# Altium integrated library TI_Logic_Specialty_Logic.IntLib: 2504 symbols (part 38 of 81)
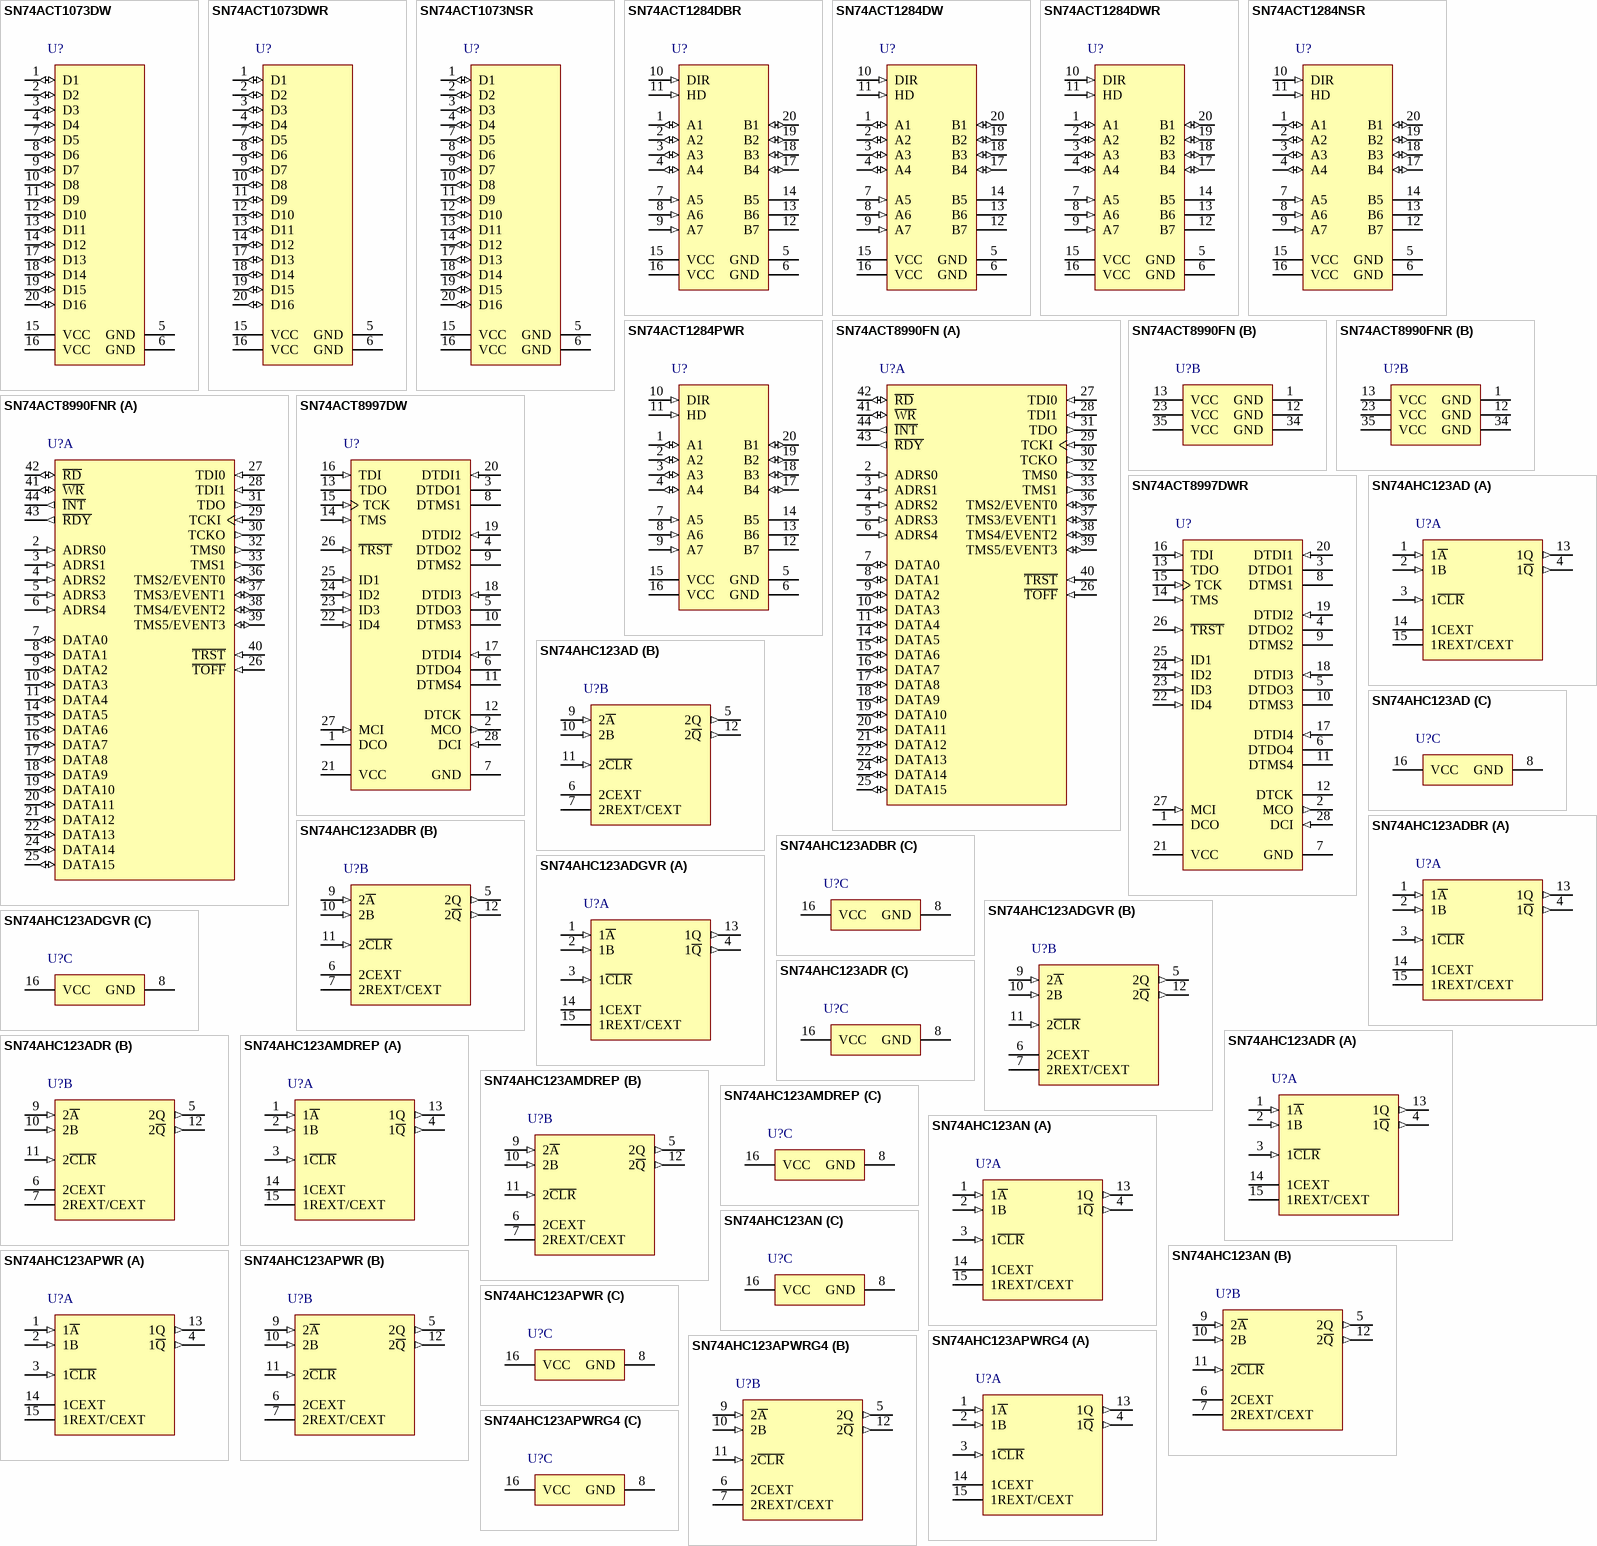
[diagram p141: symbols SN74ACT1073DW to SN74AHC123APWRG4]

## SN74ACT8997DW
designator U?
Scan Path Linkers With 4-Bit Identification Buses Scan-Controlled TAP Concatenators, DW0028A, TUBE; Generic Part Number: SN74ACT8997; Manufacturer: Texas Instruments; PartNumber: SN74ACT8997DW; VCC(Min)(V): 4.5; VCC(Max)(V): 5.5; Output Type: CMOS; Input Type: TTL; Rating: Catalog; Technology Family: ACT; DatasheetVersion: SCAS157D; PackageReference: DW0028A; Supplier 1: Mouser; Supplier Part Number 1: 595-SN74ACT8997DW; Supplier 2: Digi-Key; Supplier Part Number 2: 296-4506-5-ND; Operating Temperature Range(C): 0 to 70; ComponentLink1Description: Manufacturer URL; ComponentLink1URL: http://www.ti.com/; ComponentLink2Description: Datasheet; ComponentLink2URL: http://www.ti.com/lit/ds/symlink/sn74act8997.pdf
footprint DW0028A_N (SOIC, 28-Leads, Body 18.1x7.6mm, Pitch 1.27mm, IPC Medium Density)
footprint DW0028A_M (SOIC, 28-Leads, Body 18.1x7.6mm, Pitch 1.27mm, IPC Low Density)
footprint DW0028A_L (SOIC, 28-Leads, Body 18.1x7.6mm, Pitch 1.27mm, IPC High Density)
pins: 1 DCO (hiz) "Device condition output. DCO is configured by the control register to output protocol and interrupt signals and can be configured by the control register to output an error signal if the instruction register is loaded with (See Datasheet)", 2 MCO (out) "Master condition output. MCO transmits interrupt and protocol signals to the secondary scan path(s).", 3 DTDO1 (hiz) "Device test data output 1-4. These outputs send serial test data to the TDI input(s) of the secondary scan path(s).", 4 DTDO2 (hiz) "Device test data output 1-4. These outputs send serial test data to the TDI input(s) of the secondary scan path(s).", 5 DTDO3 (hiz) "Device test data output 1-4. These outputs send serial test data to the TDI input(s) of the secondary scan path(s).", 6 DTDO4 (hiz) "Device test data output 1-4. These outputs send serial test data to the TDI input(s) of the secondary scan path(s).", 7 GND (power) "Ground", 8 DTMS1 (hiz) "Device test mode select 1-4. Any combination of these four outputs can be selected to follow TMS to direct the secondary scan path(s) through the TAP controller states in Figure 1. The unselected DTMS outputs can be set (See Datasheet)", 9 DTMS2 (hiz) "Device test mode select 1-4. Any combination of these four outputs can be selected to follow TMS to direct the secondary scan path(s) through the TAP controller states in Figure 1. The unselected DTMS outputs can be set (See Datasheet)", 10 DTMS3 (hiz) "Device test mode select 1-4. Any combination of these four outputs can be selected to follow TMS to direct the secondary scan path(s) through the TAP controller states in Figure 1. The unselected DTMS outputs can be set (See Datasheet)", 11 DTMS4 (hiz) "Device test mode select 1-4. Any combination of these four outputs can be selected to follow TMS to direct the secondary scan path(s) through the TAP controller states in Figure 1. The unselected DTMS outputs can be set (See Datasheet)", 12 DTCK (hiz) "Device test clock. DTCK outputs the buffered test clock TCK to the secondary scan path(s).", 13 TDO (hiz) "Test data output. One of four terminals required by IEEE Standard 1149.1. TDO is the serial output for shifting information out of the instruction register or selected data register. TDO is typically connected to the TDI of (See Datasheet)", 14 TMS (in) "Test mode select. One of four terminals required by IEEE Standard 1149.1. The level of TMS at the rising edge of TCK directs the ’ACT8997 through its TAP controller states. An internal pullup forces TMS to a high level i(See Datasheet)", 15 TCK (in) "Test clock. One of four terminals required by IEEE Standard 1149.1. All operations of the ’ACT8997 except for the count function are synchronous to TCK. Data on the device inputs is captured on the rising edge of TCK, an(See Datasheet)", 16 TDI (in) "Test data input. One of four terminals required by IEEE Standard 1149.1. TDI is the serial input for shifting information into the instruction register or selected data register. TDI is typically driven by the TDO of the PBC.(See Datasheet)", 17 DTDI4 (in) "Device test data input 1-4. DTDI1-DTDI4 receive the serial test data output(s) of the selected secondary scan path(s). An internal pullup forces DTDI1-DTDI4 to a high logic level if it is left unconnected.", 18 DTDI3 (in) "Device test data input 1-4. DTDI1-DTDI4 receive the serial test data output(s) of the selected secondary scan path(s). An internal pullup forces DTDI1-DTDI4 to a high logic level if it is left unconnected.", 19 DTDI2 (in) "Device test data input 1-4. DTDI1-DTDI4 receive the serial test data output(s) of the selected secondary scan path(s). An internal pullup forces DTDI1-DTDI4 to a high logic level if it is left unconnected.", 20 DTDI1 (in) "Device test data input 1-4. DTDI1-DTDI4 receive the serial test data output(s) of the selected secondary scan path(s). An internal pullup forces DTDI1-DTDI4 to a high logic level if it is left unconnected.", 21 VCC (power) "Supply voltage", 22 ID4 (in) "Identification 1-4. This 4-bit data bus can be hardwired to provide identification of the subsystem under test. The value present on the bus can be scanned out through the boundary scan or ID bus registers.", 23 ID3 (in) "Identification 1-4. This 4-bit data bus can be hardwired to provide identification of the subsystem under test. The value present on the bus can be scanned out through the boundary scan or ID bus registers.", 24 ID2 (in) "Identification 1-4. This 4-bit data bus can be hardwired to provide identification of the subsystem under test. The value present on the bus can be scanned out through the boundary scan or ID bus registers.", 25 ID1 (in) "Identification 1-4. This 4-bit data bus can be hardwired to provide identification of the subsystem under test. The value present on the bus can be scanned out through the boundary scan or ID bus registers.", 26 ~{TRST} (in) "Test reset. This active-low input implements the optional reset terminal of IEEE Standard 1149.1. When asserted,T\R\S\T\ causes the ’ACT8997 to go to the Test-Logic-Reset state and configure the instruction register an(See Datasheet)", 27 MCI (in) "Master condition input. MCI receives interrupt and protocol signals from a primary bus controller (PBC). The level on MCI is buffered and output on MCO.", 28 DCI (in) "Device condition input. DCI receives interrupt and protocol signals from the secondary scan path(s). When the counter register is instructed to count up or down, DCI is configured as the counter clock."

## SN74ACT8997DWR
designator U?
Scan Path Linkers With 4-Bit Identification Buses Scan-Controlled TAP Concatenators, DW0028A, LARGE T&R; Generic Part Number: SN74ACT8997; Manufacturer: Texas Instruments; PartNumber: SN74ACT8997DWR; VCC(Min)(V): 4.5; VCC(Max)(V): 5.5; Output Type: CMOS; Input Type: TTL; Rating: Catalog; Technology Family: ACT; DatasheetVersion: SCAS157D; PackageReference: DW0028A; Supplier 1: Mouser; Supplier Part Number 1: 595-SN74ACT8997DWR; Supplier 2: Digi-Key; Supplier Part Number 2: 296-15977-2-ND; Supplier 3: Digi-Key; Supplier Part Number 3: 296-15977-1-ND; Supplier 4: Digi-Key; Supplier Part Number 4: 296-15977-6-ND; Operating Temperature Range(C): 0 to 70; ComponentLink1Description: Manufacturer URL; ComponentLink1URL: http://www.ti.com/; ComponentLink2Description: Datasheet; ComponentLink2URL: http://www.ti.com/lit/ds/symlink/sn74act8997.pdf
footprint DW0028A_N (SOIC, 28-Leads, Body 18.1x7.6mm, Pitch 1.27mm, IPC Medium Density)
footprint DW0028A_M (SOIC, 28-Leads, Body 18.1x7.6mm, Pitch 1.27mm, IPC Low Density)
footprint DW0028A_L (SOIC, 28-Leads, Body 18.1x7.6mm, Pitch 1.27mm, IPC High Density)
pins: 1 DCO (hiz) "Device condition output. DCO is configured by the control register to output protocol and interrupt signals and can be configured by the control register to output an error signal if the instruction register is loaded with (See Datasheet)", 2 MCO (out) "Master condition output. MCO transmits interrupt and protocol signals to the secondary scan path(s).", 3 DTDO1 (hiz) "Device test data output 1-4. These outputs send serial test data to the TDI input(s) of the secondary scan path(s).", 4 DTDO2 (hiz) "Device test data output 1-4. These outputs send serial test data to the TDI input(s) of the secondary scan path(s).", 5 DTDO3 (hiz) "Device test data output 1-4. These outputs send serial test data to the TDI input(s) of the secondary scan path(s).", 6 DTDO4 (hiz) "Device test data output 1-4. These outputs send serial test data to the TDI input(s) of the secondary scan path(s).", 7 GND (power) "Ground", 8 DTMS1 (hiz) "Device test mode select 1-4. Any combination of these four outputs can be selected to follow TMS to direct the secondary scan path(s) through the TAP controller states in Figure 1. The unselected DTMS outputs can be set (See Datasheet)", 9 DTMS2 (hiz) "Device test mode select 1-4. Any combination of these four outputs can be selected to follow TMS to direct the secondary scan path(s) through the TAP controller states in Figure 1. The unselected DTMS outputs can be set (See Datasheet)", 10 DTMS3 (hiz) "Device test mode select 1-4. Any combination of these four outputs can be selected to follow TMS to direct the secondary scan path(s) through the TAP controller states in Figure 1. The unselected DTMS outputs can be set (See Datasheet)", 11 DTMS4 (hiz) "Device test mode select 1-4. Any combination of these four outputs can be selected to follow TMS to direct the secondary scan path(s) through the TAP controller states in Figure 1. The unselected DTMS outputs can be set (See Datasheet)", 12 DTCK (hiz) "Device test clock. DTCK outputs the buffered test clock TCK to the secondary scan path(s).", 13 TDO (hiz) "Test data output. One of four terminals required by IEEE Standard 1149.1. TDO is the serial output for shifting information out of the instruction register or selected data register. TDO is typically connected to the TDI of (See Datasheet)", 14 TMS (in) "Test mode select. One of four terminals required by IEEE Standard 1149.1. The level of TMS at the rising edge of TCK directs the ’ACT8997 through its TAP controller states. An internal pullup forces TMS to a high level i(See Datasheet)", 15 TCK (in) "Test clock. One of four terminals required by IEEE Standard 1149.1. All operations of the ’ACT8997 except for the count function are synchronous to TCK. Data on the device inputs is captured on the rising edge of TCK, an(See Datasheet)", 16 TDI (in) "Test data input. One of four terminals required by IEEE Standard 1149.1. TDI is the serial input for shifting information into the instruction register or selected data register. TDI is typically driven by the TDO of the PBC.(See Datasheet)", 17 DTDI4 (in) "Device test data input 1-4. DTDI1-DTDI4 receive the serial test data output(s) of the selected secondary scan path(s). An internal pullup forces DTDI1-DTDI4 to a high logic level if it is left unconnected.", 18 DTDI3 (in) "Device test data input 1-4. DTDI1-DTDI4 receive the serial test data output(s) of the selected secondary scan path(s). An internal pullup forces DTDI1-DTDI4 to a high logic level if it is left unconnected.", 19 DTDI2 (in) "Device test data input 1-4. DTDI1-DTDI4 receive the serial test data output(s) of the selected secondary scan path(s). An internal pullup forces DTDI1-DTDI4 to a high logic level if it is left unconnected.", 20 DTDI1 (in) "Device test data input 1-4. DTDI1-DTDI4 receive the serial test data output(s) of the selected secondary scan path(s). An internal pullup forces DTDI1-DTDI4 to a high logic level if it is left unconnected.", 21 VCC (power) "Supply voltage", 22 ID4 (in) "Identification 1-4. This 4-bit data bus can be hardwired to provide identification of the subsystem under test. The value present on the bus can be scanned out through the boundary scan or ID bus registers.", 23 ID3 (in) "Identification 1-4. This 4-bit data bus can be hardwired to provide identification of the subsystem under test. The value present on the bus can be scanned out through the boundary scan or ID bus registers.", 24 ID2 (in) "Identification 1-4. This 4-bit data bus can be hardwired to provide identification of the subsystem under test. The value present on the bus can be scanned out through the boundary scan or ID bus registers.", 25 ID1 (in) "Identification 1-4. This 4-bit data bus can be hardwired to provide identification of the subsystem under test. The value present on the bus can be scanned out through the boundary scan or ID bus registers.", 26 ~{TRST} (in) "Test reset. This active-low input implements the optional reset terminal of IEEE Standard 1149.1. When asserted,T\R\S\T\ causes the ’ACT8997 to go to the Test-Logic-Reset state and configure the instruction register an(See Datasheet)", 27 MCI (in) "Master condition input. MCI receives interrupt and protocol signals from a primary bus controller (PBC). The level on MCI is buffered and output on MCO.", 28 DCI (in) "Device condition input. DCI receives interrupt and protocol signals from the secondary scan path(s). When the counter register is instructed to count up or down, DCI is configured as the counter clock."

## SN74AHC123AD
designator U?
Dual Retriggerable Monostable Multivibrators, D0016A, TUBE; Generic Part Number: SN74AHC123A; Manufacturer: Texas Instruments; PartNumber: SN74AHC123AD; VCC(Min)(V): 2; VCC(Max)(V): 5.5; Output Type: CMOS; ICC @ Nom Voltage(Max)(mA): 0.04; Input Type: LVTTL/CMOS; F @ Nom Voltage(Max)(Mhz): 110; Rating: Catalog; Technology Family: AHC; Voltage(Nom)(V): 3.3,5; Schmitt Trigger: No; Output Drive (IOL/IOH)(Max)(mA): 50/-50; tpd @ Nom Voltage(Max)(ns): 29.5,17; DatasheetVersion: SCLS352H; PackageReference: D0016A; Supplier 1: Mouser; Supplier Part Number 1: 595-SN74AHC123AD; Supplier 2: Digi-Key; Supplier Part Number 2: 296-26390-5-ND; Bits(#): 2; Operating Temperature Range(C): -40 to 85; Code_JEDEC: MS-012 variation AC; ComponentLink1Description: Manufacturer URL; ComponentLink1URL: http://www.ti.com/; ComponentLink2Description: Datasheet; ComponentLink2URL: http://www.ti.com/lit/ds/symlink/sn74ahc123a.pdf; ComponentLink3Description: Package Specification; ComponentLink3URL: http://www.ti.com/lit/ml/mpds178g/mpds178g.pdf
footprint D0016A_N (SOIC, 16-Leads, Body 10x4mm, Pitch 1.27mm, IPC Medium Density)
footprint D0016A_M (SOIC, 16-Leads, Body 10x4mm, Pitch 1.27mm, IPC Low Density)
footprint D0016A_L (SOIC, 16-Leads, Body 10x4mm, Pitch 1.27mm, IPC High Density)
part A pins: 1 1~{A} (in), 2 1B (in), 3 1~{CLR} (in), 4 1~{Q} (out), 13 1Q (out), 14 1CEXT, 15 1REXT/CEXT
part B pins: 5 2Q (out), 6 2CEXT, 7 2REXT/CEXT, 9 2~{A} (in), 10 2B (in), 11 2~{CLR} (in), 12 2~{Q} (out)
part C pins: 8 GND (power), 16 VCC (power)

## SN74AHC123ADBR
designator U?
Dual Retriggerable Monostable Multivibrators, DB0016A, LARGE T&R; Generic Part Number: SN74AHC123A; Manufacturer: Texas Instruments; PartNumber: SN74AHC123ADBR; VCC(Min)(V): 2; VCC(Max)(V): 5.5; Output Type: CMOS; ICC @ Nom Voltage(Max)(mA): 0.04; Input Type: LVTTL/CMOS; F @ Nom Voltage(Max)(Mhz): 110; Rating: Catalog; Technology Family: AHC; Voltage(Nom)(V): 3.3,5; Schmitt Trigger: No; Output Drive (IOL/IOH)(Max)(mA): 50/-50; tpd @ Nom Voltage(Max)(ns): 29.5,17; DatasheetVersion: SCLS352H; PackageReference: DB0016A; Supplier 1: Mouser; Supplier Part Number 1: 595-SN74AHC123ADBR; Supplier 2: Digi-Key; Supplier Part Number 2: 296-4525-2-ND; Supplier 3: Digi-Key; Supplier Part Number 3: 296-4525-1-ND; Supplier 4: Digi-Key; Supplier Part Number 4: 296-4525-6-ND; Bits(#): 2; Operating Temperature Range(C): -40 to 85; Code_JEDEC: MO-150; ComponentLink1Description: Manufacturer URL; ComponentLink1URL: http://www.ti.com/; ComponentLink2Description: Datasheet; ComponentLink2URL: http://www.ti.com/lit/ds/symlink/sn74ahc123a.pdf; ComponentLink3Description: Package Specification; ComponentLink3URL: http://www.ti.com/lit/ml/mpds507/mpds507.pdf
footprint DB0016A_N (SOP, 16-Leads, Body 5.6x6.5mm, Pitch 0.65mm, IPC Medium Density)
footprint DB0016A_M (SOP, 16-Leads, Body 5.6x6.5mm, Pitch 0.65mm, IPC Low Density)
footprint DB0016A_L (SOP, 16-Leads, Body 5.6x6.5mm, Pitch 0.65mm, IPC High Density)
part A pins: 1 1~{A} (in), 2 1B (in), 3 1~{CLR} (in), 4 1~{Q} (out), 13 1Q (out), 14 1CEXT, 15 1REXT/CEXT
part B pins: 5 2Q (out), 6 2CEXT, 7 2REXT/CEXT, 9 2~{A} (in), 10 2B (in), 11 2~{CLR} (in), 12 2~{Q} (out)
part C pins: 8 GND (power), 16 VCC (power)

## SN74AHC123ADGVR
designator U?
Dual Retriggerable Monostable Multivibrators, DGV0016A, LARGE T&R; Generic Part Number: SN74AHC123A; Manufacturer: Texas Instruments; PartNumber: SN74AHC123ADGVR; VCC(Min)(V): 2; VCC(Max)(V): 5.5; Output Type: CMOS; ICC @ Nom Voltage(Max)(mA): 0.04; Input Type: LVTTL/CMOS; F @ Nom Voltage(Max)(Mhz): 110; Rating: Catalog; Technology Family: AHC; Voltage(Nom)(V): 3.3,5; Schmitt Trigger: No; Output Drive (IOL/IOH)(Max)(mA): 50/-50; tpd @ Nom Voltage(Max)(ns): 29.5,17; DatasheetVersion: SCLS352H; PackageReference: DGV0016A; Supplier 1: Mouser; Supplier Part Number 1: 595-SN74AHC123ADGVR; Supplier 2: Digi-Key; Supplier Part Number 2: 296-4526-2-ND; Supplier 3: Digi-Key; Supplier Part Number 3: 296-4526-1-ND; Supplier 4: Digi-Key; Supplier Part Number 4: 296-4526-6-ND; Bits(#): 2; Operating Temperature Range(C): -40 to 85; Code_JEDEC: MO-194; ComponentLink1Description: Manufacturer URL; ComponentLink1URL: http://www.ti.com/; ComponentLink2Description: Datasheet; ComponentLink2URL: http://www.ti.com/lit/ds/symlink/sn74ahc123a.pdf; ComponentLink3Description: Package Specification; ComponentLink3URL: http://www.ti.com/lit/ml/mpds006c/mpds006c.pdf
footprint DGV0016A_N (SOP, 16-Leads, Body 4.5x3.7mm, Pitch 0.4mm, IPC Medium Density)
footprint DGV0016A_M (SOP, 16-Leads, Body 4.5x3.7mm, Pitch 0.4mm, IPC Low Density)
footprint DGV0016A_L (SOP, 16-Leads, Body 4.5x3.7mm, Pitch 0.4mm, IPC High Density)
part A pins: 1 1~{A} (in), 2 1B (in), 3 1~{CLR} (in), 4 1~{Q} (out), 13 1Q (out), 14 1CEXT, 15 1REXT/CEXT
part B pins: 5 2Q (out), 6 2CEXT, 7 2REXT/CEXT, 9 2~{A} (in), 10 2B (in), 11 2~{CLR} (in), 12 2~{Q} (out)
part C pins: 8 GND (power), 16 VCC (power)

## SN74AHC123ADR
designator U?
Dual Retriggerable Monostable Multivibrators, D0016A, LARGE T&R; Generic Part Number: SN74AHC123A; Manufacturer: Texas Instruments; PartNumber: SN74AHC123ADR; VCC(Min)(V): 2; VCC(Max)(V): 5.5; Output Type: CMOS; ICC @ Nom Voltage(Max)(mA): 0.04; Input Type: LVTTL/CMOS; F @ Nom Voltage(Max)(Mhz): 110; Rating: Catalog; Technology Family: AHC; Voltage(Nom)(V): 3.3,5; Schmitt Trigger: No; Output Drive (IOL/IOH)(Max)(mA): 50/-50; tpd @ Nom Voltage(Max)(ns): 29.5,17; DatasheetVersion: SCLS352H; PackageReference: D0016A; Supplier 1: Mouser; Supplier Part Number 1: 595-SN74AHC123ADR; Supplier 2: Digi-Key; Supplier Part Number 2: 296-4527-2-ND; Supplier 3: Digi-Key; Supplier Part Number 3: 296-4527-1-ND; Supplier 4: Digi-Key; Supplier Part Number 4: 296-4527-6-ND; Bits(#): 2; Operating Temperature Range(C): -40 to 85; Code_JEDEC: MS-012 variation AC; ComponentLink1Description: Manufacturer URL; ComponentLink1URL: http://www.ti.com/; ComponentLink2Description: Datasheet; ComponentLink2URL: http://www.ti.com/lit/ds/symlink/sn74ahc123a.pdf; ComponentLink3Description: Package Specification; ComponentLink3URL: http://www.ti.com/lit/ml/mpds178g/mpds178g.pdf
footprint D0016A_N (SOIC, 16-Leads, Body 10x4mm, Pitch 1.27mm, IPC Medium Density)
footprint D0016A_M (SOIC, 16-Leads, Body 10x4mm, Pitch 1.27mm, IPC Low Density)
footprint D0016A_L (SOIC, 16-Leads, Body 10x4mm, Pitch 1.27mm, IPC High Density)
part A pins: 1 1~{A} (in), 2 1B (in), 3 1~{CLR} (in), 4 1~{Q} (out), 13 1Q (out), 14 1CEXT, 15 1REXT/CEXT
part B pins: 5 2Q (out), 6 2CEXT, 7 2REXT/CEXT, 9 2~{A} (in), 10 2B (in), 11 2~{CLR} (in), 12 2~{Q} (out)
part C pins: 8 GND (power), 16 VCC (power)

## SN74AHC123AMDREP
designator U?
Enhanced Product Dual Retriggerable Monostable Multivibrator, D0016A, LARGE T&R; Generic Part Number: SN74AHC123A-EP; Manufacturer: Texas Instruments; PartNumber: SN74AHC123AMDREP; VCC(Min)(V): 2; VCC(Max)(V): 5.5; Output Type: CMOS; ICC @ Nom Voltage(Max)(mA): 0.04; F @ Nom Voltage(Max)(Mhz): 110; Rating: HiRel Enhanced Product; Technology Family: AHC; Voltage(Nom)(V): 3.3,5; Output Drive (IOL/IOH)(Max)(mA): 50/-50; tpd @ Nom Voltage(Max)(ns): 29.5,17; DatasheetVersion: SCLS703A; PackageReference: D0016A; Supplier 1: Mouser; Supplier Part Number 1: 595-SN74AHC123AMDREP; Supplier 2: Digi-Key; Supplier Part Number 2: 296-22265-2-ND; Supplier 3: Digi-Key; Supplier Part Number 3: 296-22265-1-ND; Supplier 4: Digi-Key; Supplier Part Number 4: 296-22265-6-ND; Input Type: CMOS; Bits(#): 2; Operating Temperature Range(C): -55 to 125; Code_JEDEC: MS-012 variation AC; ComponentLink1Description: Manufacturer URL; ComponentLink1URL: http://www.ti.com/; ComponentLink2Description: Datasheet; ComponentLink2URL: http://www.ti.com/lit/ds/symlink/sn74ahc123a-ep.pdf; ComponentLink3Description: Package Specification; ComponentLink3URL: http://www.ti.com/lit/ml/mpds178g/mpds178g.pdf
footprint D0016A_N (SOIC, 16-Leads, Body 10x4mm, Pitch 1.27mm, IPC Medium Density)
footprint D0016A_M (SOIC, 16-Leads, Body 10x4mm, Pitch 1.27mm, IPC Low Density)
footprint D0016A_L (SOIC, 16-Leads, Body 10x4mm, Pitch 1.27mm, IPC High Density)
part A pins: 1 1~{A} (in), 2 1B (in), 3 1~{CLR} (in), 4 1~{Q} (out), 13 1Q (out), 14 1CEXT, 15 1REXT/CEXT
part B pins: 5 2Q (out), 6 2CEXT, 7 2REXT/CEXT, 9 2~{A} (in), 10 2B (in), 11 2~{CLR} (in), 12 2~{Q} (out)
part C pins: 8 GND (power), 16 VCC (power)

## SN74AHC123AN
designator U?
Dual Retriggerable Monostable Multivibrators, N0016A, TUBE; Generic Part Number: SN74AHC123A; Manufacturer: Texas Instruments; PartNumber: SN74AHC123AN; VCC(Min)(V): 2; VCC(Max)(V): 5.5; Output Type: CMOS; ICC @ Nom Voltage(Max)(mA): 0.04; Input Type: LVTTL/CMOS; F @ Nom Voltage(Max)(Mhz): 110; Rating: Catalog; Technology Family: AHC; Voltage(Nom)(V): 3.3,5; Schmitt Trigger: No; Output Drive (IOL/IOH)(Max)(mA): 50/-50; tpd @ Nom Voltage(Max)(ns): 29.5,17; DatasheetVersion: SCLS352H; PackageReference: N0016A; Supplier 1: Mouser; Supplier Part Number 1: 595-SN74AHC123AN; Supplier 2: Digi-Key; Supplier Part Number 2: SN74AHC123AN-ND; Bits(#): 2; Operating Temperature Range(C): -40 to 85; Code_JEDEC: MS-001; ComponentLink1Description: Manufacturer URL; ComponentLink1URL: http://www.ti.com/; ComponentLink2Description: Datasheet; ComponentLink2URL: http://www.ti.com/lit/ds/symlink/sn74ahc123a.pdf; ComponentLink3Description: Package Specification; ComponentLink3URL: http://www.ti.com/lit/ml/mpdi002c/mpdi002c.pdf
footprint N0016A (DIP, 16-Leads, Body 19.7x6.6mm, Pitch 2.54mm)
part A pins: 1 1~{A} (in), 2 1B (in), 3 1~{CLR} (in), 4 1~{Q} (out), 13 1Q (out), 14 1CEXT, 15 1REXT/CEXT
part B pins: 5 2Q (out), 6 2CEXT, 7 2REXT/CEXT, 9 2~{A} (in), 10 2B (in), 11 2~{CLR} (in), 12 2~{Q} (out)
part C pins: 8 GND (power), 16 VCC (power)

## SN74AHC123APWR
designator U?
Dual Retriggerable Monostable Multivibrators, PW0016A, LARGE T&R; Generic Part Number: SN74AHC123A; Manufacturer: Texas Instruments; PartNumber: SN74AHC123APWR; VCC(Min)(V): 2; VCC(Max)(V): 5.5; Output Type: CMOS; ICC @ Nom Voltage(Max)(mA): 0.04; Input Type: LVTTL/CMOS; F @ Nom Voltage(Max)(Mhz): 110; Rating: Catalog; Technology Family: AHC; Voltage(Nom)(V): 3.3,5; Schmitt Trigger: No; Output Drive (IOL/IOH)(Max)(mA): 50/-50; tpd @ Nom Voltage(Max)(ns): 29.5,17; DatasheetVersion: SCLS352H; PackageReference: PW0016A; Supplier 1: Mouser; Supplier Part Number 1: 595-SN74AHC123APWR; Supplier 2: Digi-Key; Supplier Part Number 2: 296-4528-2-ND; Supplier 3: Digi-Key; Supplier Part Number 3: 296-4528-1-ND; Supplier 4: Digi-Key; Supplier Part Number 4: 296-4528-6-ND; Bits(#): 2; Operating Temperature Range(C): -40 to 85; Code_JEDEC: MO-153; ComponentLink1Description: Manufacturer URL; ComponentLink1URL: http://www.ti.com/; ComponentLink2Description: Datasheet; ComponentLink2URL: http://www.ti.com/lit/ds/symlink/sn74ahc123a.pdf; ComponentLink3Description: Package Specification; ComponentLink3URL: http://www.ti.com/lit/ml/mpds361/mpds361.pdf
footprint PW0016A_N (SOP, 16-Leads, Body 5.1x4.5mm, Pitch 0.65mm, IPC Medium Density)
footprint PW0016A_M (SOP, 16-Leads, Body 5.1x4.5mm, Pitch 0.65mm, IPC Low Density)
footprint PW0016A_L (SOP, 16-Leads, Body 5.1x4.5mm, Pitch 0.65mm, IPC High Density)
part A pins: 1 1~{A} (in), 2 1B (in), 3 1~{CLR} (in), 4 1~{Q} (out), 13 1Q (out), 14 1CEXT, 15 1REXT/CEXT
part B pins: 5 2Q (out), 6 2CEXT, 7 2REXT/CEXT, 9 2~{A} (in), 10 2B (in), 11 2~{CLR} (in), 12 2~{Q} (out)
part C pins: 8 GND (power), 16 VCC (power)

## SN74AHC123APWRG4
designator U?
Dual Retriggerable Monostable Multivibrators, PW0016A, LARGE T&R; Generic Part Number: SN74AHC123A; Manufacturer: Texas Instruments; PartNumber: SN74AHC123APWRG4; VCC(Min)(V): 2; VCC(Max)(V): 5.5; Output Type: CMOS; ICC @ Nom Voltage(Max)(mA): 0.04; Input Type: LVTTL/CMOS; F @ Nom Voltage(Max)(Mhz): 110; Rating: Catalog; Technology Family: AHC; Voltage(Nom)(V): 3.3,5; Schmitt Trigger: No; Output Drive (IOL/IOH)(Max)(mA): 50/-50; tpd @ Nom Voltage(Max)(ns): 29.5,17; DatasheetVersion: SCLS352H; PackageReference: PW0016A; Supplier 1: Mouser; Supplier Part Number 1: 595-SN74AHC123APWRG4; Supplier 2: Digi-Key; Supplier Part Number 2: 296-31732-2-ND; Supplier 3: Digi-Key; Supplier Part Number 3: 296-31732-1-ND; Supplier 4: Digi-Key; Supplier Part Number 4: 296-31732-6-ND; Bits(#): 2; Operating Temperature Range(C): -40 to 85; Code_JEDEC: MO-153; ComponentLink1Description: Manufacturer URL; ComponentLink1URL: http://www.ti.com/; ComponentLink2Description: Datasheet; ComponentLink2URL: http://www.ti.com/lit/ds/symlink/sn74ahc123a.pdf; ComponentLink3Description: Package Specification; ComponentLink3URL: http://www.ti.com/lit/ml/mpds361/mpds361.pdf
footprint PW0016A_N (SOP, 16-Leads, Body 5.1x4.5mm, Pitch 0.65mm, IPC Medium Density)
footprint PW0016A_M (SOP, 16-Leads, Body 5.1x4.5mm, Pitch 0.65mm, IPC Low Density)
footprint PW0016A_L (SOP, 16-Leads, Body 5.1x4.5mm, Pitch 0.65mm, IPC High Density)
part A pins: 1 1~{A} (in), 2 1B (in), 3 1~{CLR} (in), 4 1~{Q} (out), 13 1Q (out), 14 1CEXT, 15 1REXT/CEXT
part B pins: 5 2Q (out), 6 2CEXT, 7 2REXT/CEXT, 9 2~{A} (in), 10 2B (in), 11 2~{CLR} (in), 12 2~{Q} (out)
part C pins: 8 GND (power), 16 VCC (power)

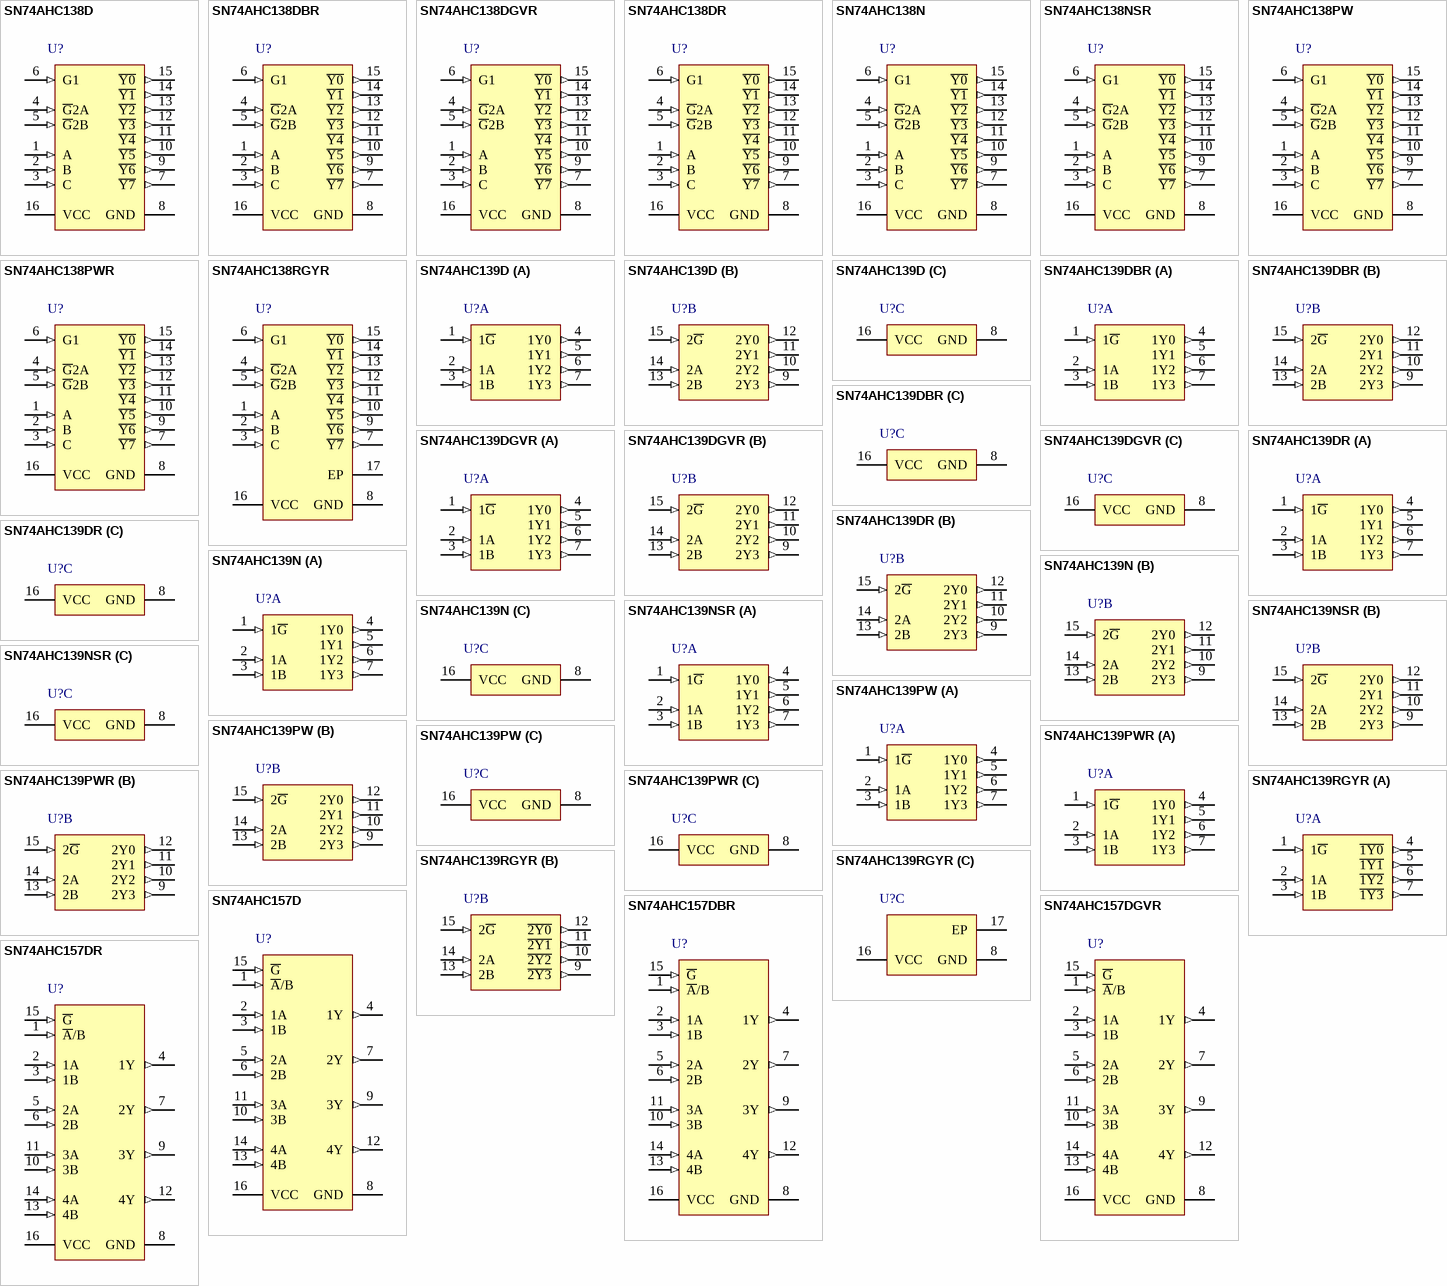
[diagram p50: symbols SN74AHC138D to SN74AHC157DR]

## SN74AHC138D
designator U?
3-Line To 8-Line Decoder / Demultiplexer, D0016A, TUBE; Generic Part Number: SN74AHC138; Manufacturer: Texas Instruments; PartNumber: SN74AHC138D; VCC(Min)(V): 2; VCC(Max)(V): 5.5; Output Type: CMOS; ICC @ Nom Voltage(Max)(mA): 0.04; Input Type: LVTTL/CMOS; Bits(#): 8; F @ Nom Voltage(Max)(Mhz): 110; Configuration: 3：8; Channels(#): 1; Rating: Catalog; Technology Family: AHC; Voltage(Nom)(V): 3.3,5; Schmitt Trigger: No; Output Drive (IOL/IOH)(Max)(mA): 50/-50; tpd @ Nom Voltage(Max)(ns): 13,9.5; DatasheetVersion: SCLS258L; PackageReference: D0016A; Supplier 1: Mouser; Supplier Part Number 1: 595-SN74AHC138D; Supplier 2: Digi-Key; Supplier Part Number 2: 296-4540-5-ND; Function: Decoder/Demultiplexer; Operating Temperature Range(C): -40 to 85; Type: Standard; Code_JEDEC: MS-012 variation AC; ComponentLink1Description: Manufacturer URL; ComponentLink1URL: http://www.ti.com/; ComponentLink2Description: Datasheet; ComponentLink2URL: http://www.ti.com/lit/ds/symlink/sn74ahc138.pdf; ComponentLink3Description: Package Specification; ComponentLink3URL: http://www.ti.com/lit/ml/mpds178g/mpds178g.pdf
footprint D0016A_N (SOIC, 16-Leads, Body 10x4mm, Pitch 1.27mm, IPC Medium Density)
footprint D0016A_M (SOIC, 16-Leads, Body 10x4mm, Pitch 1.27mm, IPC Low Density)
footprint D0016A_L (SOIC, 16-Leads, Body 10x4mm, Pitch 1.27mm, IPC High Density)
pins: 1 A (in), 2 B (in), 3 C (in), 4 ~{G}2A (in), 5 ~{G}2B (in), 6 G1 (in), 7 ~{Y7} (out), 8 GND (power), 9 ~{Y6} (out), 10 ~{Y5} (out), 11 ~{Y4} (out), 12 ~{Y3} (out), 13 ~{Y2} (out), 14 ~{Y1} (out), 15 ~{Y0} (out), 16 VCC (power)

## SN74AHC138DBR
designator U?
3-Line To 8-Line Decoder / Demultiplexer, DB0016A, LARGE T&R; Generic Part Number: SN74AHC138; Manufacturer: Texas Instruments; PartNumber: SN74AHC138DBR; VCC(Min)(V): 2; VCC(Max)(V): 5.5; Output Type: CMOS; ICC @ Nom Voltage(Max)(mA): 0.04; Input Type: LVTTL/CMOS; Bits(#): 8; F @ Nom Voltage(Max)(Mhz): 110; Configuration: 3：8; Channels(#): 1; Rating: Catalog; Technology Family: AHC; Voltage(Nom)(V): 3.3,5; Schmitt Trigger: No; Output Drive (IOL/IOH)(Max)(mA): 50/-50; tpd @ Nom Voltage(Max)(ns): 13,9.5; DatasheetVersion: SCLS258L; PackageReference: DB0016A; Supplier 1: Mouser; Supplier Part Number 1: 595-SN74AHC138DBR; Supplier 2: Digi-Key; Supplier Part Number 2: 296-4541-2-ND; Supplier 3: Digi-Key; Supplier Part Number 3: 296-4541-1-ND; Supplier 4: Digi-Key; Supplier Part Number 4: 296-4541-6-ND; Function: Decoder/Demultiplexer; Operating Temperature Range(C): -40 to 85; Type: Standard; Code_JEDEC: MO-150; ComponentLink1Description: Manufacturer URL; ComponentLink1URL: http://www.ti.com/; ComponentLink2Description: Datasheet; ComponentLink2URL: http://www.ti.com/lit/ds/symlink/sn74ahc138.pdf; ComponentLink3Description: Package Specification; ComponentLink3URL: http://www.ti.com/lit/ml/mpds507/mpds507.pdf
footprint DB0016A_N (SOP, 16-Leads, Body 5.6x6.5mm, Pitch 0.65mm, IPC Medium Density)
footprint DB0016A_M (SOP, 16-Leads, Body 5.6x6.5mm, Pitch 0.65mm, IPC Low Density)
footprint DB0016A_L (SOP, 16-Leads, Body 5.6x6.5mm, Pitch 0.65mm, IPC High Density)
pins: 1 A (in), 2 B (in), 3 C (in), 4 ~{G}2A (in), 5 ~{G}2B (in), 6 G1 (in), 7 ~{Y7} (out), 8 GND (power), 9 ~{Y6} (out), 10 ~{Y5} (out), 11 ~{Y4} (out), 12 ~{Y3} (out), 13 ~{Y2} (out), 14 ~{Y1} (out), 15 ~{Y0} (out), 16 VCC (power)

## SN74AHC138DGVR
designator U?
3-Line To 8-Line Decoder / Demultiplexer, DGV0016A, LARGE T&R; Generic Part Number: SN74AHC138; Manufacturer: Texas Instruments; PartNumber: SN74AHC138DGVR; VCC(Min)(V): 2; VCC(Max)(V): 5.5; Output Type: CMOS; ICC @ Nom Voltage(Max)(mA): 0.04; Input Type: LVTTL/CMOS; Bits(#): 8; F @ Nom Voltage(Max)(Mhz): 110; Configuration: 3：8; Channels(#): 1; Rating: Catalog; Technology Family: AHC; Voltage(Nom)(V): 3.3,5; Schmitt Trigger: No; Output Drive (IOL/IOH)(Max)(mA): 50/-50; tpd @ Nom Voltage(Max)(ns): 13,9.5; DatasheetVersion: SCLS258L; PackageReference: DGV0016A; Supplier 1: Mouser; Supplier Part Number 1: 595-SN74AHC138DGVR; Supplier 2: Digi-Key; Supplier Part Number 2: 296-38787-2-ND; Supplier 3: Digi-Key; Supplier Part Number 3: 296-38787-1-ND; Supplier 4: Digi-Key; Supplier Part Number 4: 296-38787-6-ND; Function: Decoder/Demultiplexer; Operating Temperature Range(C): -40 to 85; Type: Standard; Code_JEDEC: MO-194; ComponentLink1Description: Manufacturer URL; ComponentLink1URL: http://www.ti.com/; ComponentLink2Description: Datasheet; ComponentLink2URL: http://www.ti.com/lit/ds/symlink/sn74ahc138.pdf; ComponentLink3Description: Package Specification; ComponentLink3URL: http://www.ti.com/lit/ml/mpds006c/mpds006c.pdf
footprint DGV0016A_N (SOP, 16-Leads, Body 4.5x3.7mm, Pitch 0.4mm, IPC Medium Density)
footprint DGV0016A_M (SOP, 16-Leads, Body 4.5x3.7mm, Pitch 0.4mm, IPC Low Density)
footprint DGV0016A_L (SOP, 16-Leads, Body 4.5x3.7mm, Pitch 0.4mm, IPC High Density)
pins: 1 A (in), 2 B (in), 3 C (in), 4 ~{G}2A (in), 5 ~{G}2B (in), 6 G1 (in), 7 ~{Y7} (out), 8 GND (power), 9 ~{Y6} (out), 10 ~{Y5} (out), 11 ~{Y4} (out), 12 ~{Y3} (out), 13 ~{Y2} (out), 14 ~{Y1} (out), 15 ~{Y0} (out), 16 VCC (power)

## SN74AHC138DR
designator U?
3-Line To 8-Line Decoder / Demultiplexer, D0016A, LARGE T&R; Generic Part Number: SN74AHC138; Manufacturer: Texas Instruments; PartNumber: SN74AHC138DR; VCC(Min)(V): 2; VCC(Max)(V): 5.5; Output Type: CMOS; ICC @ Nom Voltage(Max)(mA): 0.04; Input Type: LVTTL/CMOS; Bits(#): 8; F @ Nom Voltage(Max)(Mhz): 110; Configuration: 3：8; Channels(#): 1; Rating: Catalog; Technology Family: AHC; Voltage(Nom)(V): 3.3,5; Schmitt Trigger: No; Output Drive (IOL/IOH)(Max)(mA): 50/-50; tpd @ Nom Voltage(Max)(ns): 13,9.5; DatasheetVersion: SCLS258L; PackageReference: D0016A; Supplier 1: Mouser; Supplier Part Number 1: 595-SN74AHC138DR; Supplier 2: Digi-Key; Supplier Part Number 2: 296-4540-2-ND; Supplier 3: Digi-Key; Supplier Part Number 3: 296-4540-1-ND; Supplier 4: Digi-Key; Supplier Part Number 4: 296-4540-6-ND; Function: Decoder/Demultiplexer; Operating Temperature Range(C): -40 to 85; Type: Standard; Code_JEDEC: MS-012 variation AC; ComponentLink1Description: Manufacturer URL; ComponentLink1URL: http://www.ti.com/; ComponentLink2Description: Datasheet; ComponentLink2URL: http://www.ti.com/lit/ds/symlink/sn74ahc138.pdf; ComponentLink3Description: Package Specification; ComponentLink3URL: http://www.ti.com/lit/ml/mpds178g/mpds178g.pdf
footprint D0016A_N (SOIC, 16-Leads, Body 10x4mm, Pitch 1.27mm, IPC Medium Density)
footprint D0016A_M (SOIC, 16-Leads, Body 10x4mm, Pitch 1.27mm, IPC Low Density)
footprint D0016A_L (SOIC, 16-Leads, Body 10x4mm, Pitch 1.27mm, IPC High Density)
pins: 1 A (in), 2 B (in), 3 C (in), 4 ~{G}2A (in), 5 ~{G}2B (in), 6 G1 (in), 7 ~{Y7} (out), 8 GND (power), 9 ~{Y6} (out), 10 ~{Y5} (out), 11 ~{Y4} (out), 12 ~{Y3} (out), 13 ~{Y2} (out), 14 ~{Y1} (out), 15 ~{Y0} (out), 16 VCC (power)

## SN74AHC138N
designator U?
3-Line To 8-Line Decoder / Demultiplexer, N0016A, TUBE; Generic Part Number: SN74AHC138; Manufacturer: Texas Instruments; PartNumber: SN74AHC138N; VCC(Min)(V): 2; VCC(Max)(V): 5.5; Output Type: CMOS; ICC @ Nom Voltage(Max)(mA): 0.04; Input Type: LVTTL/CMOS; Bits(#): 8; F @ Nom Voltage(Max)(Mhz): 110; Configuration: 3：8; Channels(#): 1; Rating: Catalog; Technology Family: AHC; Voltage(Nom)(V): 3.3,5; Schmitt Trigger: No; Output Drive (IOL/IOH)(Max)(mA): 50/-50; tpd @ Nom Voltage(Max)(ns): 13,9.5; DatasheetVersion: SCLS258L; PackageReference: N0016A; Supplier 1: Mouser; Supplier Part Number 1: 595-SN74AHC138N; Supplier 2: Digi-Key; Supplier Part Number 2: 296-4542-5-ND; Function: Decoder/Demultiplexer; Operating Temperature Range(C): -40 to 85; Type: Standard; Code_JEDEC: MS-001; ComponentLink1Description: Manufacturer URL; ComponentLink1URL: http://www.ti.com/; ComponentLink2Description: Datasheet; ComponentLink2URL: http://www.ti.com/lit/ds/symlink/sn74ahc138.pdf; ComponentLink3Description: Package Specification; ComponentLink3URL: http://www.ti.com/lit/ml/mpdi002c/mpdi002c.pdf
footprint N0016A (DIP, 16-Leads, Body 19.7x6.6mm, Pitch 2.54mm)
pins: 1 A (in), 2 B (in), 3 C (in), 4 ~{G}2A (in), 5 ~{G}2B (in), 6 G1 (in), 7 ~{Y7} (out), 8 GND (power), 9 ~{Y6} (out), 10 ~{Y5} (out), 11 ~{Y4} (out), 12 ~{Y3} (out), 13 ~{Y2} (out), 14 ~{Y1} (out), 15 ~{Y0} (out), 16 VCC (power)

## SN74AHC138NSR
designator U?
3-Line To 8-Line Decoder / Demultiplexer, NS0016A, LARGE T&R; Generic Part Number: SN74AHC138; Manufacturer: Texas Instruments; PartNumber: SN74AHC138NSR; VCC(Min)(V): 2; VCC(Max)(V): 5.5; Output Type: CMOS; ICC @ Nom Voltage(Max)(mA): 0.04; Input Type: LVTTL/CMOS; Bits(#): 8; F @ Nom Voltage(Max)(Mhz): 110; Configuration: 3：8; Channels(#): 1; Rating: Catalog; Technology Family: AHC; Voltage(Nom)(V): 3.3,5; Schmitt Trigger: No; Output Drive (IOL/IOH)(Max)(mA): 50/-50; tpd @ Nom Voltage(Max)(ns): 13,9.5; DatasheetVersion: SCLS258L; PackageReference: NS0016A; Supplier 1: Mouser; Supplier Part Number 1: 595-SN74AHC138NSR; Supplier 2: Digi-Key; Supplier Part Number 2: 296-28937-2-ND; Supplier 3: Digi-Key; Supplier Part Number 3: 296-28937-1-ND; Supplier 4: Digi-Key; Supplier Part Number 4: 296-28937-6-ND; Function: Decoder/Demultiplexer; Operating Temperature Range(C): -40 to 85; Type: Standard; ComponentLink1Description: Manufacturer URL; ComponentLink1URL: http://www.ti.com/; ComponentLink2Description: Datasheet; ComponentLink2URL: http://www.ti.com/lit/ds/symlink/sn74ahc138.pdf; ComponentLink3Description: Package Specification; ComponentLink3URL: http://www.ti.com/lit/ml/msop002a/msop002a.pdf
footprint NS0016A_N (SOIC,16-Leads,Body 10.5x5.6mm,Pitch 1.27mm,IPC Medium Density)
footprint NS0016A_M (SOIC,16-Leads,Body 10.5x5.6mm,Pitch 1.27mm,IPC Low Density)
footprint NS0016A_L (SOIC,16-Leads,Body 10.5x5.6mm,Pitch 1.27mm,IPC High Density)
pins: 1 A (in), 2 B (in), 3 C (in), 4 ~{G}2A (in), 5 ~{G}2B (in), 6 G1 (in), 7 ~{Y7} (out), 8 GND (power), 9 ~{Y6} (out), 10 ~{Y5} (out), 11 ~{Y4} (out), 12 ~{Y3} (out), 13 ~{Y2} (out), 14 ~{Y1} (out), 15 ~{Y0} (out), 16 VCC (power)

## SN74AHC138PW
designator U?
3-Line To 8-Line Decoder / Demultiplexer, PW0016A, TUBE; Generic Part Number: SN74AHC138; Manufacturer: Texas Instruments; PartNumber: SN74AHC138PW; VCC(Min)(V): 2; VCC(Max)(V): 5.5; Output Type: CMOS; ICC @ Nom Voltage(Max)(mA): 0.04; Input Type: LVTTL/CMOS; Bits(#): 8; F @ Nom Voltage(Max)(Mhz): 110; Configuration: 3：8; Channels(#): 1; Rating: Catalog; Technology Family: AHC; Voltage(Nom)(V): 3.3,5; Schmitt Trigger: No; Output Drive (IOL/IOH)(Max)(mA): 50/-50; tpd @ Nom Voltage(Max)(ns): 13,9.5; DatasheetVersion: SCLS258L; PackageReference: PW0016A; Supplier 1: Mouser; Supplier Part Number 1: 595-SN74AHC138PW; Supplier 2: Digi-Key; Supplier Part Number 2: 296-26393-5-ND; Function: Decoder/Demultiplexer; Operating Temperature Range(C): -40 to 85; Type: Standard; Code_JEDEC: MO-153; ComponentLink1Description: Manufacturer URL; ComponentLink1URL: http://www.ti.com/; ComponentLink2Description: Datasheet; ComponentLink2URL: http://www.ti.com/lit/ds/symlink/sn74ahc138.pdf; ComponentLink3Description: Package Specification; ComponentLink3URL: http://www.ti.com/lit/ml/mpds361/mpds361.pdf
footprint PW0016A_N (SOP, 16-Leads, Body 5.1x4.5mm, Pitch 0.65mm, IPC Medium Density)
footprint PW0016A_M (SOP, 16-Leads, Body 5.1x4.5mm, Pitch 0.65mm, IPC Low Density)
footprint PW0016A_L (SOP, 16-Leads, Body 5.1x4.5mm, Pitch 0.65mm, IPC High Density)
pins: 1 A (in), 2 B (in), 3 C (in), 4 ~{G}2A (in), 5 ~{G}2B (in), 6 G1 (in), 7 ~{Y7} (out), 8 GND (power), 9 ~{Y6} (out), 10 ~{Y5} (out), 11 ~{Y4} (out), 12 ~{Y3} (out), 13 ~{Y2} (out), 14 ~{Y1} (out), 15 ~{Y0} (out), 16 VCC (power)

## SN74AHC138PWR
designator U?
3-Line To 8-Line Decoder / Demultiplexer, PW0016A, LARGE T&R; Generic Part Number: SN74AHC138; Manufacturer: Texas Instruments; PartNumber: SN74AHC138PWR; VCC(Min)(V): 2; VCC(Max)(V): 5.5; Output Type: CMOS; ICC @ Nom Voltage(Max)(mA): 0.04; Input Type: LVTTL/CMOS; Bits(#): 8; F @ Nom Voltage(Max)(Mhz): 110; Configuration: 3：8; Channels(#): 1; Rating: Catalog; Technology Family: AHC; Voltage(Nom)(V): 3.3,5; Schmitt Trigger: No; Output Drive (IOL/IOH)(Max)(mA): 50/-50; tpd @ Nom Voltage(Max)(ns): 13,9.5; DatasheetVersion: SCLS258L; PackageReference: PW0016A; Supplier 1: Mouser; Supplier Part Number 1: 595-SN74AHC138PWR; Supplier 2: Digi-Key; Supplier Part Number 2: 296-1084-2-ND; Supplier 3: Digi-Key; Supplier Part Number 3: 296-1084-1-ND; Supplier 4: Digi-Key; Supplier Part Number 4: 296-1084-6-ND; Function: Decoder/Demultiplexer; Operating Temperature Range(C): -40 to 85; Type: Standard; Code_JEDEC: MO-153; ComponentLink1Description: Manufacturer URL; ComponentLink1URL: http://www.ti.com/; ComponentLink2Description: Datasheet; ComponentLink2URL: http://www.ti.com/lit/ds/symlink/sn74ahc138.pdf; ComponentLink3Description: Package Specification; ComponentLink3URL: http://www.ti.com/lit/ml/mpds361/mpds361.pdf
footprint PW0016A_N (SOP, 16-Leads, Body 5.1x4.5mm, Pitch 0.65mm, IPC Medium Density)
footprint PW0016A_M (SOP, 16-Leads, Body 5.1x4.5mm, Pitch 0.65mm, IPC Low Density)
footprint PW0016A_L (SOP, 16-Leads, Body 5.1x4.5mm, Pitch 0.65mm, IPC High Density)
pins: 1 A (in), 2 B (in), 3 C (in), 4 ~{G}2A (in), 5 ~{G}2B (in), 6 G1 (in), 7 ~{Y7} (out), 8 GND (power), 9 ~{Y6} (out), 10 ~{Y5} (out), 11 ~{Y4} (out), 12 ~{Y3} (out), 13 ~{Y2} (out), 14 ~{Y1} (out), 15 ~{Y0} (out), 16 VCC (power)

## SN74AHC138RGYR
designator U?
3-Line To 8-Line Decoder / Demultiplexer, RGY0016A, LARGE T&R; Generic Part Number: SN74AHC138; Manufacturer: Texas Instruments; PartNumber: SN74AHC138RGYR; VCC(Min)(V): 2; VCC(Max)(V): 5.5; Output Type: CMOS; ICC @ Nom Voltage(Max)(mA): 0.04; Input Type: LVTTL/CMOS; Bits(#): 8; F @ Nom Voltage(Max)(Mhz): 110; Configuration: 3：8; Channels(#): 1; Rating: Catalog; Technology Family: AHC; Voltage(Nom)(V): 3.3,5; Schmitt Trigger: No; Output Drive (IOL/IOH)(Max)(mA): 50/-50; tpd @ Nom Voltage(Max)(ns): 13,9.5; DatasheetVersion: SCLS258L; PackageReference: RGY0016A; Supplier 1: Mouser; Supplier Part Number 1: 595-SN74AHC138RGYR; Supplier 2: Digi-Key; Supplier Part Number 2: 296-13899-2-ND; Supplier 3: Digi-Key; Supplier Part Number 3: 296-13899-1-ND; Supplier 4: Digi-Key; Supplier Part Number 4: 296-13899-6-ND; Function: Decoder/Demultiplexer; Operating Temperature Range(C): -40 to 85; Type: Standard; Code_JEDEC: MO-241; ComponentLink1Description: Manufacturer URL; ComponentLink1URL: http://www.ti.com/; ComponentLink2Description: Datasheet; ComponentLink2URL: http://www.ti.com/lit/ds/symlink/sn74ahc138.pdf; ComponentLink3Description: Package Specification; ComponentLink3URL: http://www.ti.com/lit/ml/mpqf115g/mpqf115g.pdf
footprint RGY0016A_V (QFN, 16-Leads, Body 4x3.5mm, Thermal Pad 2.55x2.05mm, TI Recommend)
pins: 1 A (in), 2 B (in), 3 C (in), 4 ~{G}2A (in), 5 ~{G}2B (in), 6 G1 (in), 7 ~{Y7} (out), 8 GND (power), 9 ~{Y6} (out), 10 ~{Y5} (out), 11 ~{Y4} (out), 12 ~{Y3} (out), 13 ~{Y2} (out), 14 ~{Y1} (out), 15 ~{Y0} (out), 16 VCC (power), 17 EP

## SN74AHC139D
designator U?
Dual 2-Line To 4-Line Decoders / Demultiplexers, D0016A, TUBE; Generic Part Number: SN74AHC139; Manufacturer: Texas Instruments; PartNumber: SN74AHC139D; VCC(Min)(V): 2; VCC(Max)(V): 5.5; Function: Decoder/Demultiplexer; ICC @ Nom Voltage(Max)(mA): 0.04; F @ Nom Voltage(Max)(Mhz): 110; Configuration: 2：4; Rating: Military; Technology Family: AHC; Voltage(Nom)(V): 3.3,5; Schmitt Trigger: No; Output Drive (IOL/IOH)(Max)(mA): 50/-50; tpd @ Nom Voltage(Max)(ns): 13,8.5; DatasheetVersion: SCLS259L; PackageReference: D0016A; Supplier 1: Mouser; Supplier Part Number 1: 595-SN74AHC139D; Supplier 2: Digi-Key; Supplier Part Number 2: 296-4543-5-ND; Operating Temperature Range(C): -40 to 125; Type: Standard; Channels(#): 2; Code_JEDEC: MS-012 variation AC; ComponentLink1Description: Manufacturer URL; ComponentLink1URL: http://www.ti.com/; ComponentLink2Description: Datasheet; ComponentLink2URL: http://www.ti.com/lit/ds/symlink/sn74ahc139.pdf; ComponentLink3Description: Package Specification; ComponentLink3URL: http://www.ti.com/lit/ml/mpds178g/mpds178g.pdf
footprint D0016A_N (SOIC, 16-Leads, Body 10x4mm, Pitch 1.27mm, IPC Medium Density)
footprint D0016A_M (SOIC, 16-Leads, Body 10x4mm, Pitch 1.27mm, IPC Low Density)
footprint D0016A_L (SOIC, 16-Leads, Body 10x4mm, Pitch 1.27mm, IPC High Density)
part A pins: 1 1~{G} (in), 2 1A (in), 3 1B (in), 4 1Y0 (out), 5 1Y1 (out), 6 1Y2 (out), 7 1Y3 (out)
part B pins: 9 2Y3 (out), 10 2Y2 (out), 11 2Y1 (out), 12 2Y0 (out), 13 2B (in), 14 2A (in), 15 2~{G} (in)
part C pins: 8 GND (power), 16 VCC (power)

## SN74AHC139DBR
designator U?
Dual 2-Line To 4-Line Decoders / Demultiplexers, DB0016A, LARGE T&R; Generic Part Number: SN74AHC139; Manufacturer: Texas Instruments; PartNumber: SN74AHC139DBR; VCC(Min)(V): 2; VCC(Max)(V): 5.5; Function: Decoder/Demultiplexer; ICC @ Nom Voltage(Max)(mA): 0.04; F @ Nom Voltage(Max)(Mhz): 110; Configuration: 2：4; Rating: Military; Technology Family: AHC; Voltage(Nom)(V): 3.3,5; Schmitt Trigger: No; Output Drive (IOL/IOH)(Max)(mA): 50/-50; tpd @ Nom Voltage(Max)(ns): 13,8.5; DatasheetVersion: SCLS259L; PackageReference: DB0016A; Supplier 1: Mouser; Supplier Part Number 1: 595-SN74AHC139DBR; Supplier 2: Digi-Key; Supplier Part Number 2: 296-4544-2-ND; Supplier 3: Digi-Key; Supplier Part Number 3: 296-4544-1-ND; Supplier 4: Digi-Key; Supplier Part Number 4: 296-4544-6-ND; Operating Temperature Range(C): -40 to 125; Type: Standard; Channels(#): 2; Code_JEDEC: MO-150; ComponentLink1Description: Manufacturer URL; ComponentLink1URL: http://www.ti.com/; ComponentLink2Description: Datasheet; ComponentLink2URL: http://www.ti.com/lit/ds/symlink/sn74ahc139.pdf; ComponentLink3Description: Package Specification; ComponentLink3URL: http://www.ti.com/lit/ml/mpds507/mpds507.pdf
footprint DB0016A_N (SOP, 16-Leads, Body 5.6x6.5mm, Pitch 0.65mm, IPC Medium Density)
footprint DB0016A_M (SOP, 16-Leads, Body 5.6x6.5mm, Pitch 0.65mm, IPC Low Density)
footprint DB0016A_L (SOP, 16-Leads, Body 5.6x6.5mm, Pitch 0.65mm, IPC High Density)
part A pins: 1 1~{G} (in), 2 1A (in), 3 1B (in), 4 1Y0 (out), 5 1Y1 (out), 6 1Y2 (out), 7 1Y3 (out)
part B pins: 9 2Y3 (out), 10 2Y2 (out), 11 2Y1 (out), 12 2Y0 (out), 13 2B (in), 14 2A (in), 15 2~{G} (in)
part C pins: 8 GND (power), 16 VCC (power)

## SN74AHC139DGVR
designator U?
Dual 2-Line To 4-Line Decoders / Demultiplexers, DGV0016A, LARGE T&R; Generic Part Number: SN74AHC139; Manufacturer: Texas Instruments; PartNumber: SN74AHC139DGVR; VCC(Min)(V): 2; VCC(Max)(V): 5.5; Function: Decoder/Demultiplexer; ICC @ Nom Voltage(Max)(mA): 0.04; F @ Nom Voltage(Max)(Mhz): 110; Configuration: 2：4; Rating: Military; Technology Family: AHC; Voltage(Nom)(V): 3.3,5; Schmitt Trigger: No; Output Drive (IOL/IOH)(Max)(mA): 50/-50; tpd @ Nom Voltage(Max)(ns): 13,8.5; DatasheetVersion: SCLS259L; PackageReference: DGV0016A; Supplier 1: Mouser; Supplier Part Number 1: 595-SN74AHC139DGVR; Supplier 2: Digi-Key; Supplier Part Number 2: 296-4545-2-ND; Supplier 3: Digi-Key; Supplier Part Number 3: 296-4545-1-ND; Supplier 4: Digi-Key; Supplier Part Number 4: 296-4545-6-ND; Operating Temperature Range(C): -40 to 125; Type: Standard; Channels(#): 2; Code_JEDEC: MO-194; ComponentLink1Description: Manufacturer URL; ComponentLink1URL: http://www.ti.com/; ComponentLink2Description: Datasheet; ComponentLink2URL: http://www.ti.com/lit/ds/symlink/sn74ahc139.pdf; ComponentLink3Description: Package Specification; ComponentLink3URL: http://www.ti.com/lit/ml/mpds006c/mpds006c.pdf
footprint DGV0016A_N (SOP, 16-Leads, Body 4.5x3.7mm, Pitch 0.4mm, IPC Medium Density)
footprint DGV0016A_M (SOP, 16-Leads, Body 4.5x3.7mm, Pitch 0.4mm, IPC Low Density)
footprint DGV0016A_L (SOP, 16-Leads, Body 4.5x3.7mm, Pitch 0.4mm, IPC High Density)
part A pins: 1 1~{G} (in), 2 1A (in), 3 1B (in), 4 1Y0 (out), 5 1Y1 (out), 6 1Y2 (out), 7 1Y3 (out)
part B pins: 9 2Y3 (out), 10 2Y2 (out), 11 2Y1 (out), 12 2Y0 (out), 13 2B (in), 14 2A (in), 15 2~{G} (in)
part C pins: 8 GND (power), 16 VCC (power)

## SN74AHC139DR
designator U?
Dual 2-Line To 4-Line Decoders / Demultiplexers, D0016A, LARGE T&R; Generic Part Number: SN74AHC139; Manufacturer: Texas Instruments; PartNumber: SN74AHC139DR; VCC(Min)(V): 2; VCC(Max)(V): 5.5; Function: Decoder/Demultiplexer; ICC @ Nom Voltage(Max)(mA): 0.04; F @ Nom Voltage(Max)(Mhz): 110; Configuration: 2：4; Rating: Military; Technology Family: AHC; Voltage(Nom)(V): 3.3,5; Schmitt Trigger: No; Output Drive (IOL/IOH)(Max)(mA): 50/-50; tpd @ Nom Voltage(Max)(ns): 13,8.5; DatasheetVersion: SCLS259L; PackageReference: D0016A; Supplier 1: Mouser; Supplier Part Number 1: 595-SN74AHC139DR; Supplier 2: Digi-Key; Supplier Part Number 2: 296-38218-2-ND; Supplier 3: Digi-Key; Supplier Part Number 3: 296-38218-1-ND; Supplier 4: Digi-Key; Supplier Part Number 4: 296-38218-6-ND; Operating Temperature Range(C): -40 to 125; Type: Standard; Channels(#): 2; Code_JEDEC: MS-012 variation AC; ComponentLink1Description: Manufacturer URL; ComponentLink1URL: http://www.ti.com/; ComponentLink2Description: Datasheet; ComponentLink2URL: http://www.ti.com/lit/ds/symlink/sn74ahc139.pdf; ComponentLink3Description: Package Specification; ComponentLink3URL: http://www.ti.com/lit/ml/mpds178g/mpds178g.pdf
footprint D0016A_N (SOIC, 16-Leads, Body 10x4mm, Pitch 1.27mm, IPC Medium Density)
footprint D0016A_M (SOIC, 16-Leads, Body 10x4mm, Pitch 1.27mm, IPC Low Density)
footprint D0016A_L (SOIC, 16-Leads, Body 10x4mm, Pitch 1.27mm, IPC High Density)
part A pins: 1 1~{G} (in), 2 1A (in), 3 1B (in), 4 1Y0 (out), 5 1Y1 (out), 6 1Y2 (out), 7 1Y3 (out)
part B pins: 9 2Y3 (out), 10 2Y2 (out), 11 2Y1 (out), 12 2Y0 (out), 13 2B (in), 14 2A (in), 15 2~{G} (in)
part C pins: 8 GND (power), 16 VCC (power)

## SN74AHC139N
designator U?
Dual 2-Line To 4-Line Decoders / Demultiplexers, N0016A, TUBE; Generic Part Number: SN74AHC139; Manufacturer: Texas Instruments; PartNumber: SN74AHC139N; VCC(Min)(V): 2; VCC(Max)(V): 5.5; Function: Decoder/Demultiplexer; ICC @ Nom Voltage(Max)(mA): 0.04; F @ Nom Voltage(Max)(Mhz): 110; Configuration: 2：4; Rating: Military; Technology Family: AHC; Voltage(Nom)(V): 3.3,5; Schmitt Trigger: No; Output Drive (IOL/IOH)(Max)(mA): 50/-50; tpd @ Nom Voltage(Max)(ns): 13,8.5; DatasheetVersion: SCLS259L; PackageReference: N0016A; Supplier 1: Mouser; Supplier Part Number 1: 595-SN74AHC139N; Supplier 2: Digi-Key; Supplier Part Number 2: 296-4546-5-ND; Operating Temperature Range(C): -40 to 125; Type: Standard; Channels(#): 2; Code_JEDEC: MS-001; ComponentLink1Description: Manufacturer URL; ComponentLink1URL: http://www.ti.com/; ComponentLink2Description: Datasheet; ComponentLink2URL: http://www.ti.com/lit/ds/symlink/sn74ahc139.pdf; ComponentLink3Description: Package Specification; ComponentLink3URL: http://www.ti.com/lit/ml/mpdi002c/mpdi002c.pdf
footprint N0016A (DIP, 16-Leads, Body 19.7x6.6mm, Pitch 2.54mm)
part A pins: 1 1~{G} (in), 2 1A (in), 3 1B (in), 4 1Y0 (out), 5 1Y1 (out), 6 1Y2 (out), 7 1Y3 (out)
part B pins: 9 2Y3 (out), 10 2Y2 (out), 11 2Y1 (out), 12 2Y0 (out), 13 2B (in), 14 2A (in), 15 2~{G} (in)
part C pins: 8 GND (power), 16 VCC (power)